# Altium schematic symbol library RFM98W.SchLib: 1 symbol
Pins are listed as number, name and electrical type; pins without a type are passive.

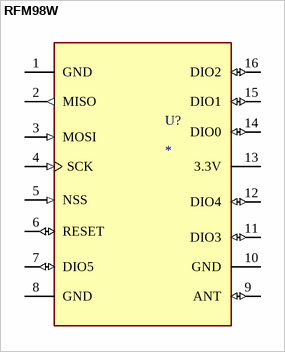
[diagram p0: symbol RFM98W]

## RFM98W
designator U?
802.15.4, General ISM < 1GHz LoRaâ„¢ Transceiver Module 433MHz Surface Mount; MF: RF Solutions; MP: RFM98W-433S2; Value: *; SnapEDA_Link: https://www.snapeda.com/parts/RFM98W-433S2/RF%20Solutions/view-part/583263/?ref=snap; Package: SMD-16 RF Solutions; Availability: Unavailable; Price: None
footprint XCVR_RFM98W-433S2
pins: 1 GND (power), 2 MISO (out), 3 MOSI (in), 4 SCK (in), 5 NSS (in), 6 RESET (io), 7 DIO5 (io), 8 GND (power), 9 ANT (io), 10 GND (power), 11 DIO3 (io), 12 DIO4 (io), 13 3.3V (power), 14 DIO0 (io), 15 DIO1 (io), 16 DIO2 (io)